# Altium schematic symbol library TCA39306DDF.SchLib: 1 symbol
Pins are listed as number, name and electrical type; pins without a type are passive.

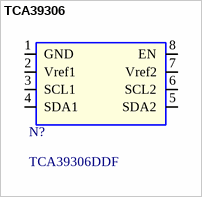
[diagram p0: symbol TCA39306]

## TCA39306
designator N?, comment TCA39306DDF
value: TCA39306DDF
pins: 1 GND (power), 2 Vref1 (power), 3 SCL1 (power), 4 SDA1 (power), 5 SDA2 (power), 6 SCL2 (power), 7 Vref2 (power), 8 EN (power)